# Altium schematic symbol library std.SchLib: 42 symbols
Pins are listed as number, name and electrical type; pins without a type are passive.

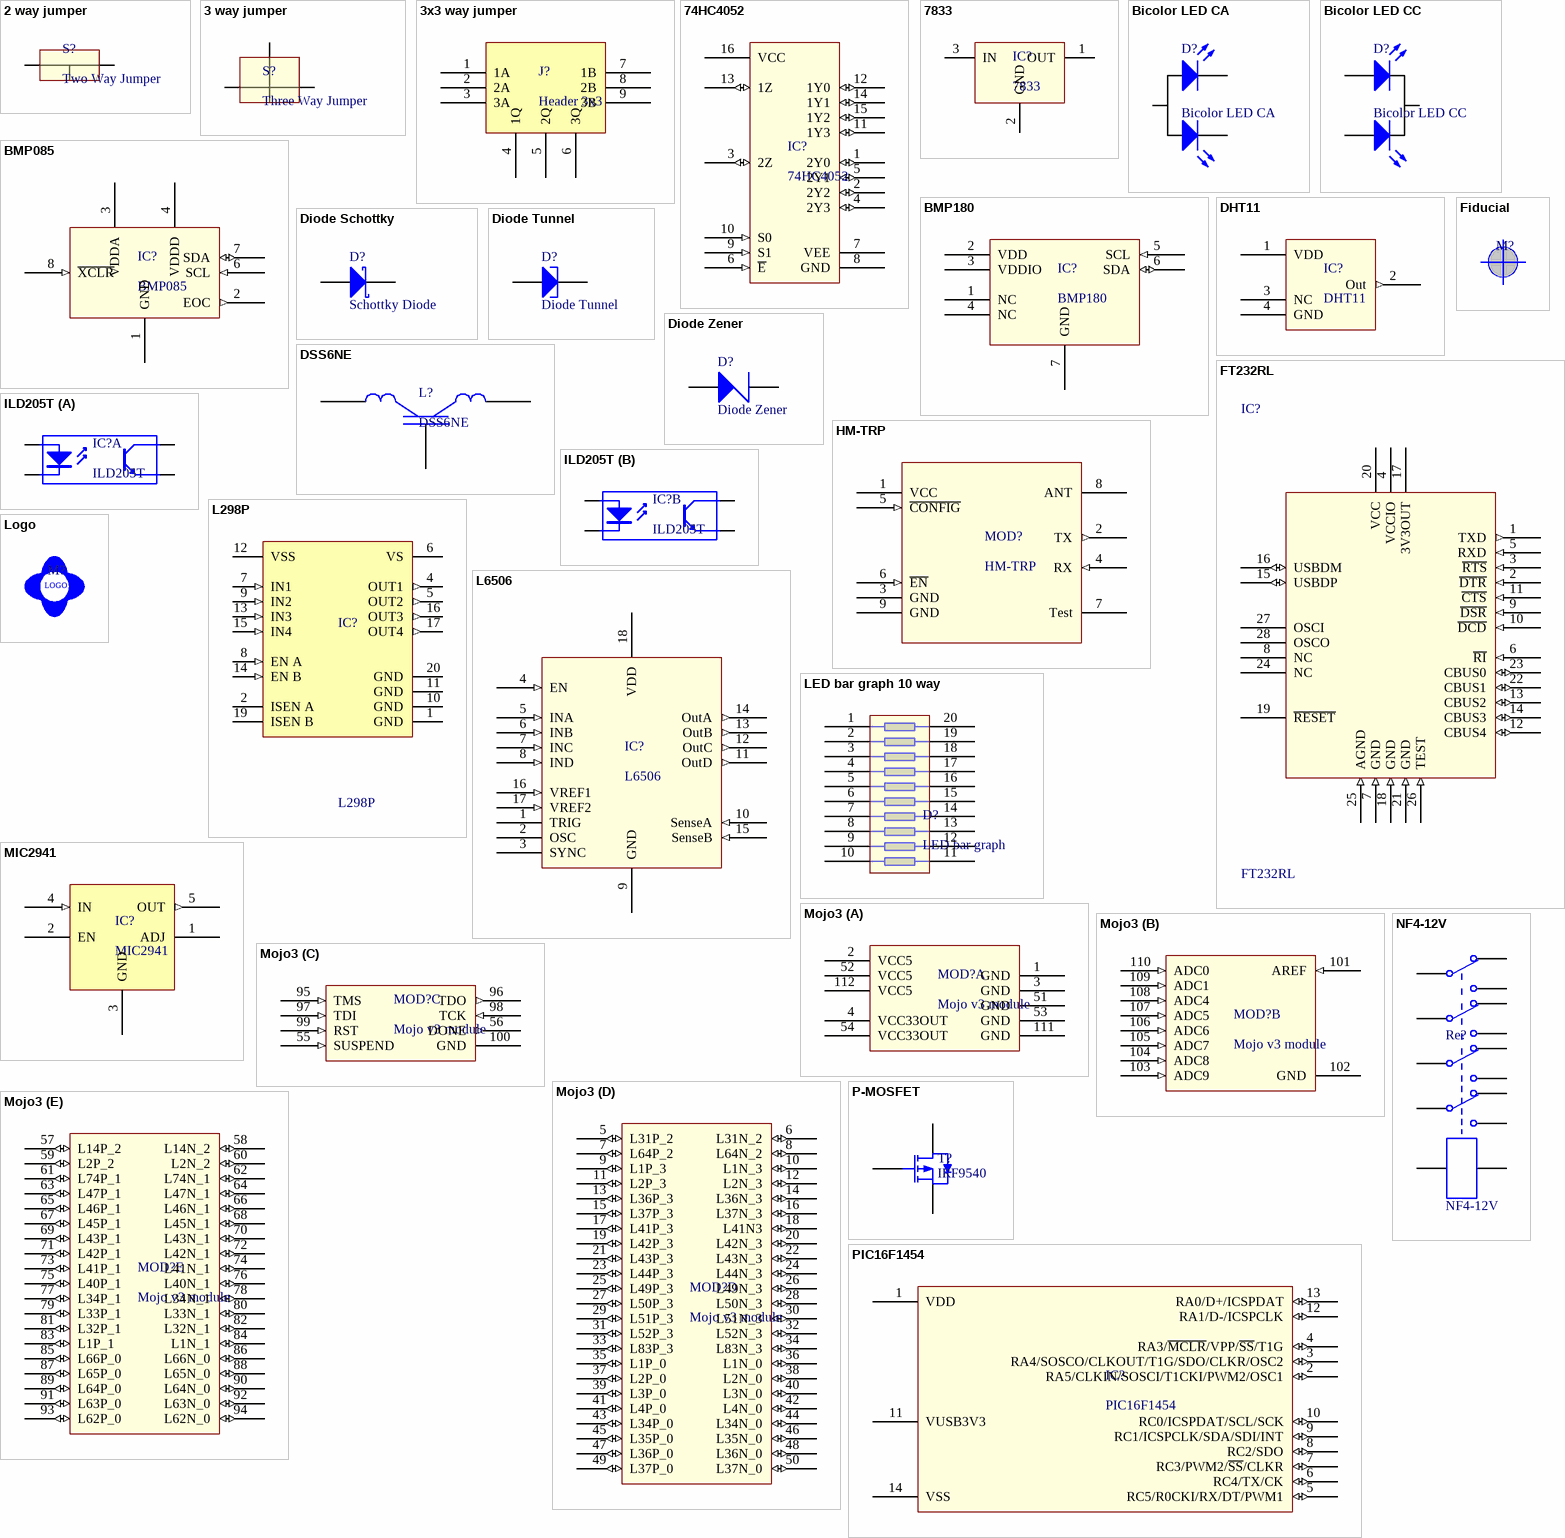
[diagram p0: symbols 2 way jumper to PIC16F1454]

## 2 way jumper
designator S?, comment Two Way Jumper
2 way jumper
footprint SW-2WAY (2 way jumper)
pins: 1 COM, 2 A, 3 C

## 3 way jumper
designator S?, comment Three Way Jumper
3 way jumper
footprint SW-3WAY (3 way jumper)
pins: 1 COM, 2 A, 3 B, 4 C

## 3x3 way jumper
designator J?, comment Header 3x3
3 x 3 way header
footprint CONN-HDR-0.1-3x3 (Header, 3 row, 9 way, 100 mil pitch)
pins: 1 1A "VDD", 2 2A "VDD", 3 3A "VDD", 4 1Q "VDD", 5 2Q "VDD", 6 3Q "VDD", 7 1B "VDD", 8 2B "VDD", 9 3B "VDD"

## 74HC4052
designator IC?
Dual 4-channel analog multiplexr/decoder
footprint IC-SOIC-16 (SOIC Narrow, 16-Leads, Body 9.9x3.9mm, Pitch 1.27mm)
pins: 1 2Y0 (io), 2 2Y2 (io), 3 2Z (io) "2Y0", 4 2Y3 (io), 5 2Y1 (io), 6 ~{E} (in) "Enable", 7 VEE (power) "Negative supply", 8 GND (power) "Ground", 9 S1 (in) "Channel Select 1", 10 S0 (in) "Channel Select 0", 11 1Y3 (io), 12 1Y0 (io), 13 1Z (io) "2Y0", 14 1Y1 (io), 15 1Y2 (io), 16 VCC (power) "Positive supply"

## 7833
designator IC?
Positive voltage regulator; Manufacturer: ST Microelectronics; PartNumber: L78L33; Datasheet: http://www.taydaelectronics.com/datasheets/A-492.pdf; Package: TO-92; Published: 2014-06-29; Publisher: VUB; Technology: Through hole
footprint TO-92-T (TO-92 package)
pins: 1 OUT "Output", 2 GND "Ground", 3 IN "Input"

## Bicolor LED CA
designator D?
Bicolor LED Common Anode; Published: 8-Jun-2000; LatestRevisionDate: 08-Jul-2005; LatestRevisionNote: Mech Layer 1 removed.; PackageReference: LED-0; Publisher: Altium Limited; PackageDescription: LED; 2 Leads
footprint LED-3MM-BICOLOR (Bicolor LED 3 mm)
simulation model LED0 (Diode)
pins: 1 K1, 2 K2, 3 A

## Bicolor LED CC
designator D?
Bicolor LED Common Cathode; Published: 8-Jun-2000; LatestRevisionDate: 08-Jul-2005; LatestRevisionNote: Mech Layer 1 removed.; PackageReference: LED-0; Publisher: Altium Limited; PackageDescription: LED; 2 Leads
footprint LED-3MM-BICOLOR (Bicolor LED 3 mm)
simulation model LED0 (Diode)
pins: 1 K1, 2 K2, 3 K

## BMP085
designator IC?
Digital Pressure Sensor; Manufacturer: Bosch; Datasheet: https://dlnmh9ip6v2uc.cloudfront.net/datasheets/Sensors/Pressure/BST-BMP085-DS000-06.pdf
footprint IC-LCC-8 (Footprint for the BMP085 barometer)
pins: 1 GND (power), 2 EOC (out) "End Of Conversion", 3 VDDA (power), 4 VDDD (power), 6 SCL (in), 7 SDA (io), 8 ~{XCLR} (in) "Master Clear"

## BMP180
designator IC?
Digital pressure sensor; Manufacturer: Bosch; PartNumber: BMP180; Technology: SMD; Package: LGA-7; Datasheet: https://www.adafruit.com/datasheets/BST-BMP180-DS000-09.pdf; OrderCode: http://www.aliexpress.com/item/Digital-pressure-sensor-BMP180/32251484519.html; Publisher: Vrije Universiteit Brussel; Published: 05/06/2015; Supplier: AliExpress; SupplierLink: http://www.aliexpress.com/item/Digital-pressure-sensor-BMP180/32251484519.html
footprint IC-LGA-7 (LGA package, 7 pins)
pins: 1 NC (power) "Not Connected", 2 VDD (power) "Power", 3 VDDIO (power) "IO Voltage", 4 NC "Not Connected", 5 SCL (in) "I²C Clock", 6 SDA (io) "I²C Data", 7 GND (power) "Ground"

## DHT11
designator IC?
Humidity  & Temperate Sensor; Manufacturer: Aosong; Supplier: AliExpress; Datasheet: http://akizukidenshi.com/download/ds/aosong/dht11.pdf; PartNumber: DHT11; Technology: Through hole; Package: 4 pin single row; SupplierLink: http://www.aliexpress.com/item/DHT11-DHT-11-Digital-Temperature-and-Humidity-Temperature-sensor/1957252682.html; OrderCode: http://www.aliexpress.com/item/DHT11-DHT-11-Digital-Temperature-and-Humidity-Temperature-sensor/1957252682.html; Publisher: Vrije Universiteit Brussel; Published: 05/06/2015
footprint IC-DHT11 (DHT11 Temperature & Humidity Sensor)
pins: 1 VDD (power), 2 Out (out) "Single Wire Digital Output", 3 NC "Not Connected", 4 GND (power) "Ground"

## Diode Schottky
designator D?, comment Schottky Diode
Published: 8-Jun-2000; LatestRevisionDate: 17-Jul-2002; LatestRevisionNote: Re-released for DXP Platform.; PackageReference: SMB; Publisher: Altium Limited; PackageDescription: DO-214-AA/SMB; 2 C-Bend Leads; Body 5.3 x 3.6 mm, inc. leads (LxW); Code_JEDEC: DO-214-AA
footprint DIODE-0.3-SCHOTTKY (Axial Schottky Diode, Leads 0.3 inch spacing)
simulation model SKYDIODE (Diode)
signal-integrity model D Schottky
pins: 1 A, 2 K

## Diode Tunnel
designator D?
Tunnel Diode; Published: 8-Jun-2000; LatestRevisionDate: 17-Jul-2002; LatestRevisionNote: Re-released for DXP Platform.; PackageVersion: Sep-1996; PackageReference: SMC; Publisher: Altium Limited; PackageDescription: DO-214-AB/SMC; 2 C-Bend Leads; Body 7.9 x 5.9 mm, inc. leads (LxW); Code_JEDEC: DO-214-AB
footprint DIODE-0.3-TUNNEL (Axial Tunnel Diode, Leads 0.3 inch spacing)
simulation model DIODE (Diode)
signal-integrity model Diode
pins: 1 A, 2 K

## Diode Zener
designator D?
Zener Diode; Published: 8-Jun-2000; LatestRevisionDate: 17-Jul-2002; LatestRevisionNote: Re-released for DXP Platform.; PackageReference: DIODE-0.7; Publisher: Altium Limited; PackageDescription: Diode, Thru-Hole; 2 Leads; 0.7 in Pin Spacing
footprint DIODE-0.3-ZENER (Axial Zener Diode, Leads 0.3 inch spacing)
simulation model ZENER (Diode)
signal-integrity model D Zener
pins: 1 A, 2 K

## DSS6NE
designator L?
Line filter
footprint IND-SS6NE (DSS6NE52A222Q55B Integrated line filter, 100 mil pitch)
pins: 1 IN "Input", 2 GND (power) "Ground", 3 OUT "Output"

## Fiducial
designator M?  (value not drawn)
Fiducial marking
footprint MECH-FID-ALL

## FT232RL
designator IC?
FT232 UART IC; Farnell: 1146032; Supplier: FTDI; Datasheet: http://www.farnell.com/datasheets/1647396.pdf
footprint IC-SSOP-28 (SSOP, Plastic; 28 Leads; Body Width 5.3 mm; Pitch 0.65 mm)
pins: 1 TXD (out), 2 ~{DTR} (in), 3 ~{RTS} (in), 4 VCCIO (power), 5 RXD (in), 6 ~{RI} (in), 7 GND (in), 8 NC (power), 9 ~{DSR} (in), 10 ~{DCD} (in), 11 ~{CTS} (in), 12 CBUS4 (io), 13 CBUS2 (io), 14 CBUS3 (io), 15 USBDP (io), 16 USBDM (io), 17 3V3OUT (power), 18 GND (in), 19 ~{RESET} (power), 20 VCC (power), 21 GND (in), 22 CBUS1 (io), 23 CBUS0 (io), 24 NC (power), 25 AGND (in), 26 TEST (in), 27 OSCI (power), 28 OSCO (power)

## HM-TRP
designator MOD?
HM-TRP Series 100 mW Transceiver module; Manufacturer: Hope RF; Datasheet: http://hoperfusa.com/docs/HM-TRP.pdf; OrderCode: HM-TRP; Package: SMD; PartNumber: HM-TRP; Published: 28-06-2014; Publisher: VUB; Technology: Surface Mount
footprint HM-TRP (Hope RF HM-TRP 433 MHz transceiver module)
pins: 1 VCC (power) "Power supply", 2 TX (out) "Data transmission", 3 GND (power) "Ground", 4 RX (in) "Data receiver", 5 ~{CONFIG} (in) "Configuration mode enable", 6 ~{EN} (in) "Enable", 7 Test, 8 ANT "Antenna", 9 GND (power) "Ground"

## ILD205T
designator IC?
Optocoupler, Phototransistor Output, Dual Channel; Manufacturer: Vishay Semiconductor; OrderCode: 1469512; PartNumber: ILD205T; Supplier: Farnell; Technology: SMD; Package: SOIC-8; Datasheet: http://www.vishay.com/docs/83647/ild205t.pdf; SupplierLink: http://be.farnell.com/vishay-semiconductor/ild205t/optocoupler-transistor-o-p/dp/1469512
footprint IC-SOIC-8 (SOIC, 8-Leads, Body 4.9x3.8mm, Pitch 1.27mm, IPC Medium Density)
part A pins: 1 A "Anode", 2 C "Cathode", 7 E "Emitter", 8 C "Collector"
part B pins: 3 A "Anode", 4 C "Cathode", 5 E "Emitter", 6 C "Collector"

## L298P
designator IC?
Dual Full Bridge Driver; Manufacturer: ST Microelectronics; Supplier: AliExpress; SupplierLink: http://www.aliexpress.com/item/L298P-L298-SOP20-double-completely-excessive-drive/1980599150.html; Datasheet: http://www.st.com/web/en/resource/technical/document/datasheet/CD00000240.pdf; Technology: SMD; Package: PowerSO-20; PartNumber: L298P
footprint IC-PowerSO-20
pins: 1 GND (power), 2 ISEN A, 4 OUT1 (out), 5 OUT2 (out), 6 VS (power), 7 IN1 (in), 8 EN A (in), 9 IN2 (in), 10 GND (power), 11 GND (power), 12 VSS (power), 13 IN3 (in), 14 EN B (in), 15 IN4 (in), 16 OUT3 (out), 17 OUT4 (out), 19 ISEN B, 20 GND (power)

## L6506
designator IC?
PWM Current Controller
footprint IC-DIP-18 (DIP-18 package, 100 mil pitch, 300 mil row pitch)
pins: 1 TRIG "Trigger", 2 OSC "Oscillator", 3 SYNC "Master/Slave Synchronization", 4 EN (in) "Power Enable", 5 INA (in) "Input A", 6 INB (in) "Input A", 7 INC (in) "Input A", 8 IND (in) "Input A", 9 GND (power), 10 SenseA (in) "Sense Input A", 11 OutD (out) "Output D", 12 OutC (out) "Output C", 13 OutB (out) "Output B", 14 OutA (out) "Output A", 15 SenseB (in) "Sense Input B", 16 VREF1 (in) "Reference Voltage 1", 17 VREF2 (in) "Reference Voltage 2", 18 VDD (power) "VCC"

## LED bar graph 10 way
designator D?, comment LED bar graph
LED bar graph, 10 positions
pins: 1 "Anode", 2 "Anode", 3 "Anode", 4 "Anode", 5 "Anode", 6 "Anode", 7 "Anode", 8 "Anode", 9 "Anode", 10 "Anode", 11 "Cathode", 12 "Cathode", 13 "Cathode", 14 "Cathode", 15 "Cathode", 16 "Cathode", 17 "Cathode", 18 "Cathode", 19 "Cathode", 20 "Cathode"

## Logo
designator M?  (value not drawn)
footprint LOGO-APERTURE-BTM (Aperture Science Logo, 300 mil)
text: LOGO

## MIC2941
designator IC?
1.2A Low-Dropout Voltage Regulator
footprint TO-263 (D2-PAK, 5-Leads, Body 9.3x10.2mm, Pitch 2.54mm, Lead Span 15.2mm, IPC High Density)
pins: 1 ADJ "Adjust", 2 EN "Shutdown", 3 GND (power) "Ground", 4 IN (in) "Input", 5 OUT (out) "Output", 6 Ground (power) hidden to GND

## Mojo3
designator MOD?, comment Mojo v3 module
footprint MOD-MOJO3 (Mojo v3 Board)
part A pins: 1 GND (power), 2 VCC5 (power) "VCC 5V", 3 GND (power), 4 VCC33OUT (power) "3.3V output", 51 GND (power), 52 VCC5 (power) "VCC 5V", 53 GND (power), 54 VCC33OUT (power) "3.3V output", 111 GND (power), 112 VCC5 (power) "VCC 5V"
part B pins: 101 AREF (in) "Analog reference voltage", 102 GND (power) "Ground", 103 ADC9 (in) "Analog input 9", 104 ADC8 (in) "Analog input 8", 105 ADC7 (in) "Analog input 7", 106 ADC6 (in) "Analog input 6", 107 ADC5 (in) "Analog input 5", 108 ADC4 (in) "Analog input 4", 109 ADC1 (in) "Analog input 1", 110 ADC0 (in) "Analog input 0"
part C pins: 55 SUSPEND (in) "Suspend", 56 DONE (out) "JTAG Done", 95 TMS (in) "JTAG TMS", 96 TDO (out) "JTAG TDO", 97 TDI (in) "JTAG TDI", 98 TCK (in) "JTAG TCK", 99 RST (in) "Reset", 100 GND "Ground"
part D pins: 5 L31P_2 (io) "IO", 6 L31N_2 (io) "IO", 7 L64P_2 (io) "IO", 8 L64N_2 (io) "IO", 9 L1P_3 (io) "IO", 10 L1N_3 (io) "IO", 11 L2P_3 (io) "IO", 12 L2N_3 (io) "IO", 13 L36P_3 (io) "IO", 14 L36N_3 (io) "IO", 15 L37P_3 (io) "IO", 16 L37N_3 (io) "IO", 17 L41P_3 (io) "IO", 18 L41N3 (io) "IO", 19 L42P_3 (io) "IO", 20 L42N_3 (io) "IO", 21 L43P_3 (io) "IO", 22 L43N_3 (io) "IO", 23 L44P_3 (io) "IO", 24 L44N_3 (io) "IO", 25 L49P_3 (io) "IO", 26 L49N_3 (io) "IO", 27 L50P_3 (io) "IO", 28 L50N_3 (io) "IO", 29 L51P_3 (io) "IO", 30 L51N_3 (io) "IO", 31 L52P_3 (io) "IO", 32 L52N_3 (io) "IO", 33 L83P_3 (io) "IO", 34 L83N_3 (io) "IO", 35 L1P_0 (io) "IO", 36 L1N_0 (io) "IO", 37 L2P_0 (io) "IO", 38 L2N_0 (io) "IO", 39 L3P_0 (io) "IO", 40 L3N_0 (io) "IO", 41 L4P_0 (io) "IO", 42 L4N_0 (io) "IO", 43 L34P_0 (io) "IO", 44 L34N_0 (io) "IO", 45 L35P_0 (io) "IO", 46 L35N_0 (io) "IO", 47 L36P_0 (io) "IO", 48 L36N_0 (io) "IO", 49 L37P_0 (io) "IO", 50 L37N_0 (io) "IO"
part E pins: 57 L14P_2 (io) "IO", 58 L14N_2 (io) "IO", 59 L2P_2 (io) "IO", 60 L2N_2 (io) "IO", 61 L74P_1 (io) "IO", 62 L74N_1 (io) "IO", 63 L47P_1 (io) "IO", 64 L47N_1 (io) "IO", 65 L46P_1 (io) "IO", 66 L46N_1 (io) "IO", 67 L45P_1 (io) "IO", 68 L45N_1 (io) "IO", 69 L43P_1 (io) "IO", 70 L43N_1 (io) "IO", 71 L42P_1 (io) "IO", 72 L42N_1 (io) "IO", 73 L41P_1 (io) "IO", 74 L41N_1 (io) "IO", 75 L40P_1 (io) "IO", 76 L40N_1 (io) "IO", 77 L34P_1 (io) "IO", 78 L34N_1 (io) "IO", 79 L33P_1 (io) "IO", 80 L33N_1 (io) "IO", 81 L32P_1 (io) "IO", 82 L32N_1 (io) "IO", 83 L1P_1 (io) "IO", 84 L1N_1 (io) "IO", 85 L66P_0 (io) "IO", 86 L66N_0 (io) "IO", 87 L65P_0 (io) "IO", 88 L65N_0 (io) "IO", 89 L64P_0 (io) "IO", 90 L64N_0 (io) "IO", 91 L63P_0 (io) "IO", 92 L63N_0 (io) "IO", 93 L62P_0 (io) "IO", 94 L62N_0 (io) "IO"

## NF4-12V
designator Re?
4 Pole Change Over Relay Switch; Published: 24-Mar-1999; LatestRevisionDate: 17-Jul-2002; LatestRevisionNote: Re-released for DXP Platform.; PackageReference: DIP-P8; Publisher: Altium Limited; PackageDescription: Relay; 8 Leads
footprint REL-4PCO-0.2 (Relay, 4PCO, 14 leads, switch pitch 200 mil, switch coil pitch 400 mil, row pitch 200 mil)
simulation model DPDTRELAY (Spice Subcircuit)
pins: 1, 2, 3, 4, 5, 6, 7, 8, 9, 10, 11, 12, 13, 14

## P-MOSFET
designator T?, comment IRF9540
P-Channel MOSFET; Published: 8-Jun-2000; LatestRevisionDate: 17-Jul-2002; LatestRevisionNote: Re-released for DXP Platform.; PackageVersion: 1995/1996; PackageReference: E3; Publisher: Altium Limited; PackageDescription: TO, Flat Index; 3 In-Line, Axial Leads; Body Dia. 4.6mm; Lead Dia. 0.5 mm (max)
footprint TO-220 (TO, Thru-Hole, Vertical, Heatsink Mounted; 3 In-Line Leads; Pitch 2.54 mm)
simulation model PMOS (MOSFET-P)
pins: 1 D, 2 G, 3 S

## PIC16F1454
designator IC?
14-Pin Flash 8-Bit USB Microcontroller with XLP Technology; Manufacturer: Microchip; PartNumber: PIC16F1454-I/P; OrderCode: 2305809; SupplierLink: http://be.farnell.com/microchip/pic16f1454-i-p/mcu-8bit-pic16-48mhz-dip-14/dp/2305809; Supplier: Farnell; Package: DIP-14; Technology: Through hole; Publisher: Vrije Universiteit Brussel; Published: 15/06/2015
footprint IC-DIP-14 (DIP; 14 Leads; Row Spacing 7.62 mm; Pitch 2.54 mm)
pins: 1 VDD (power), 2 RA5/CLKIN/SOSCI/T1CKI/PWM2/OSC1 (io) "GPIO", 3 RA4/SOSCO/CLKOUT/T1G/SDO/CLKR/OSC2 (io) "GPIO", 4 RA3/~{MCLR}/VPP/~{SS}/T1G (io) "Reset, GPIO", 5 RC5/R0CKI/RX/DT/PWM1 (io) "GPIO", 6 RC4/TX/CK (io) "GPIO", 7 RC3/PWM2/~{SS}/CLKR (io) "GPIO", 8 RC2/SDO (io) "GPIO", 9 RC1/ICSPCLK/SDA/SDI/INT (io) "GPIO", 10 RC0/ICSPDAT/SCL/SCK (io) "GPIO", 11 VUSB3V3 (power) "USB Voltage Rail 3.3V", 12 RA1/D-/ICSPCLK (io) "GPIO, USB D-", 13 RA0/D+/ICSPDAT (io) "GPIO, USB D+", 14 VSS (power)

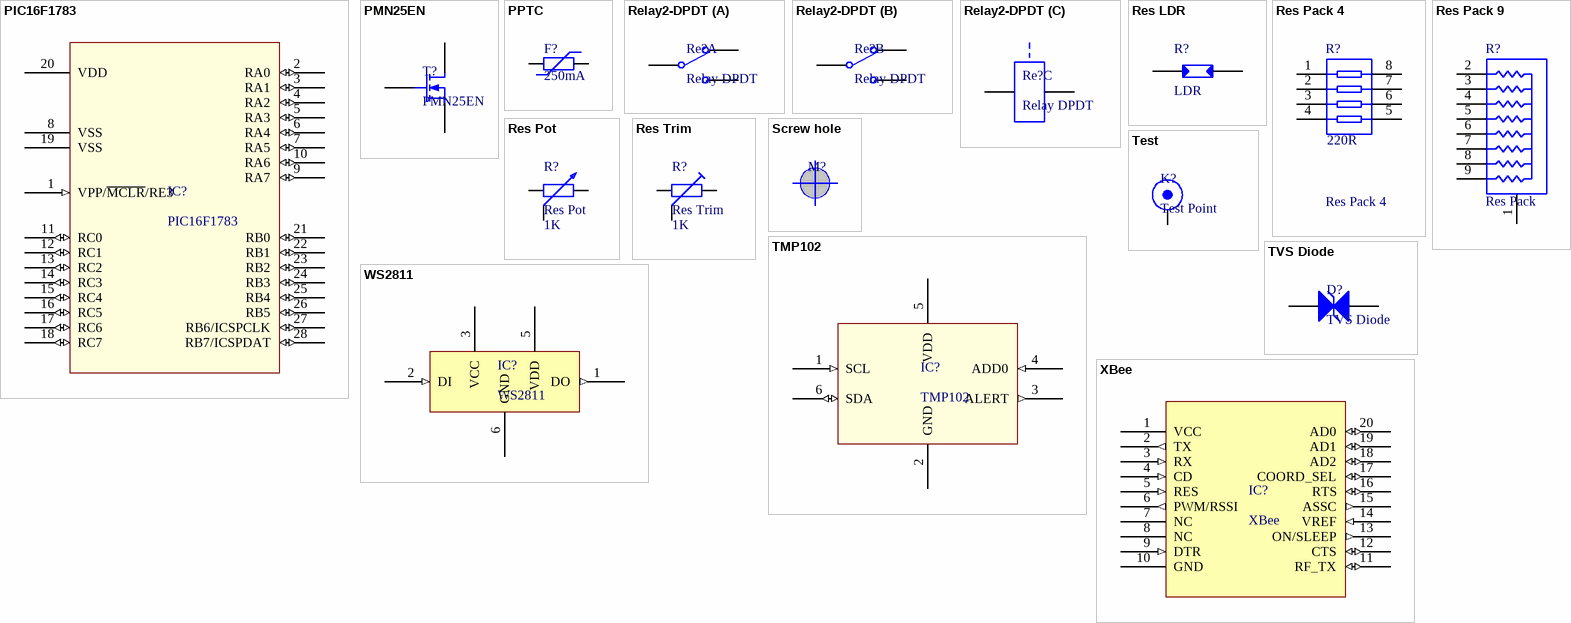
[diagram p1: symbols PIC16F1783 to XBee]

## PIC16F1783
designator IC?
28-Pin 8-Bit Advanced Analog Flash Microcontroller; Manufacturer: Microchip; Datasheet: http://ww1.microchip.com/downloads/en/DeviceDoc/41579D.pdf; LatestRevisionDate: 5-Dec-2013
footprint IC-DIP-28 (DIP, 28-Leads, Row Spacing 7.62mm, Pitch 2.54mm, Body 34.67x7.3mm)
pins: 1 VPP/~{MCLR}/RE3 (in) "VPP/MCLR/RE3", 2 RA0 (io), 3 RA1 (io) "RA0", 4 RA2 (io) "RA0", 5 RA3 (io) "RA0", 6 RA4 (io) "RA0", 7 RA5 (io) "RA0", 8 VSS (power), 9 RA7 (io), 10 RA6 (io) "RA7", 11 RC0 (io), 12 RC1 (io) "RC0", 13 RC2 (io) "RC0", 14 RC3 (io) "RC0", 15 RC4 (io) "RC0", 16 RC5 (io) "RC0", 17 RC6 (io) "RC0", 18 RC7 (io) "RC0", 19 VSS (power), 20 VDD (power), 21 RB0 (io), 22 RB1 (io) "RB0", 23 RB2 (io) "RB0", 24 RB3 (io) "RB0", 25 RB4 (io) "RB0", 26 RB5 (io) "RB0", 27 RB6/ICSPCLK (io), 28 RB7/ICSPDAT (io)

## PMN25EN
designator T?
30V, 6.2A, N-channel Trench MOSFET; Manufacturer: NXP; OrderCode: 2069560; Datasheet: http://www.farnell.com/datasheets/1508382.pdf; Supplier: Farnell; SupplierLink: http://be.farnell.com/nxp/pmn25en/mosfet-n-ch-30v-6-2a-sot457/dp/2069560; Package: TSSOP-6; Technology: SMD
footprint IC-TSOT-6 (SOT23, 6-Leads, Body 2.9x1.6mm, Pitch 0.95mm, Lead Span 2.8mm, IPC High Density)
pins: 1 D, 2 D (power) "Ground", 3 G, 4 S, 5 D (power) "Ground", 6 D (power) "Ground"

## PPTC
designator F?, comment 250mA
PPTC Resettable Fuse; Voltage: 16V; Published: 11-06-2015; Publisher: Vrije Universiteit Brussel; Value: 250mA
footprint FUSE-1812 (Resettable fuse, 1812)
pins: 1, 2

## Relay2-DPDT
designator Re?, comment Relay DPDT
footprint REL-DPDT-0.3 (Relay, DPDT, 8 leads, switch pitch 100 mil, switch coil pitch 400 mil, row pitch 200 mil)
part A pins: 1, 2, 8
part B pins: 9, 15, 16
part C pins: 3, 14

## Res LDR
designator R?, comment LDR
LDR (Light Dependent Resistor); Published: 24-Mar-1999; LatestRevisionDate: 29-May-2009; LatestRevisionNote: IPC-7351 Footprint Added.; PackageVersion: Mar-2003; PackageReference: 6-0805; Publisher: Altium Limited; PackageDescription: Chip Resistor 0805 Case Size; Code_IPC: RESC2012
footprint 6-0805_N (Chip Resistor, Body 2.0x1.2mm, IPC Medium Density)
footprint 6-0805_L (Chip Resistor, Body 2.0x1.2mm, IPC High Density)
footprint 6-0805_M (Chip Resistor, Body 2.0x1.2mm, IPC Low Density)
footprint OPTO-LDR (Light Dependent Resistor)
pins: 1, 2

## Res Pack 4
designator R?  value 220R
Isolated Resistor Network; Published: 24-Mar-1999; LatestRevisionDate: 29-May-2009; LatestRevisionNote: IPC-7351 Footprint Added.; PackageVersion: Oct-2003; PackageReference: SSOP16; Publisher: Altium Limited; PackageDescription: 16-Pin Plastic Small Outline Package 0.65 mm Pitch; Code_JEDEC: MO-150-AC; Code_IPC: SOP65P780-16
footprint RES-ARRAY-1206 (Yageo Resistor Array, TC164, 1206)
footprint SSOP16_L (SOP, 16-Leads, Body 6.2x5.3mm, Pitch 0.65mm, IPC High Density)
footprint SSOP16_M (SOP, 16-Leads, Body 6.2x5.3mm, Pitch 0.65mm, IPC Low Density)
simulation model respack_8 (Spice Subcircuit)
pins: 1, 2, 3, 4, 5, 6, 7, 8

## Res Pack 9
designator R?, comment Res Pack
Isolated Resistor Network; Value: 1K; Published: 24-Mar-1999; LatestRevisionDate: 29-May-2009; LatestRevisionNote: IPC-7351 Footprint Added.; PackageReference: SO-16; Publisher: Altium Limited; PackageDescription: 16-Pin Small Outline Integrated Circuit 1.27 mm Pitch; Code_JEDEC: MS-012-AC; Code_IPC: SOIC127P600-16
footprint RES-SIP-9 (Resistor, network, 8 way common)
footprint SO-16_L (SOIC, 16-Leads, Body 9.9x3.9mm, Pitch 1.27mm, IPC High Density)
footprint SO-16_M (SOIC, 16-Leads, Body 9.9x3.9mm, Pitch 1.27mm, IPC Low Density)
simulation model respack_8 (Spice Subcircuit)
pins: 1, 2, 3, 4, 5, 6, 7, 8, 9

## Res Pot
designator R?  value 1K
Variable Resistor; Set Position: 0.5; Published: 8-Jun-2000; LatestRevisionDate: 17-Jul-2002; LatestRevisionNote: Re-released for DXP Platform.; PackageReference: AXIAL-0.6; Publisher: Altium Limited; PackageDescription: Axial Device, Thru-Hole; 2 Leads; 0.6 in Pin Spacing
footprint RES-POT-2.5 (Potentiometer, 3 leads, 2.5 mm pitch, vertical)
simulation model VRES (Variable Resistor)
signal-integrity model Res Adj
pins: 1, 2, 3 (power) "VSS"

## Res Trim
designator R?  value 1K
Variable Resistor; Set Position: 0.5; Published: 8-Jun-2000; LatestRevisionDate: 17-Jul-2002; LatestRevisionNote: Re-released for DXP Platform.; PackageReference: AXIAL-0.6; Publisher: Altium Limited; PackageDescription: Axial Device, Thru-Hole; 2 Leads; 0.6 in Pin Spacing
footprint RES-TRIM-3386P (Trimpot, 200 mil x 100 mil pitch)
simulation model VRES (Variable Resistor)
signal-integrity model Res Adj
pins: 1, 2, 3 (power) "VSS"

## Screw hole
designator M?  (value not drawn)
footprint MECH-SCREW-M2.3 (Screw M2.3)

## Test
designator K?, comment Test Point
footprint TEST (Test Point)
pins: 1 TEST "Test"

## TMP102
designator IC?
Low Power I²C Temperature Sensor; Manufacturer: Texas Instruments; Datasheet: http://www.ti.com/lit/ds/sbos397c/sbos397c.pdf; URL: http://www.ti.com/product/tmp102
footprint IC-SOT-563 (SOT-563, 6 leads, 20 mil pitch)
pins: 1 SCL (in), 2 GND (power) "Ground", 3 ALERT (out) "Alert", 4 ADD0 (in) "Address 0", 5 VDD (power), 6 SDA (io)

## TVS Diode
designator D?
TVS Peak Voltage Suppressor
pins: 1 A "Anode", 2 K "Cathode"

## WS2811
designator IC?
WS2811 RGB LED Controller
footprint LED-WHITE-5050 (LED, white, SMD, 5050)
pins: 1 DO (out) "Data Out", 2 DI (in) "Data Input", 3 VCC, 5 VDD "Vdd", 6 GND

## XBee
designator IC?
XBee header
footprint XBee (XBee header)
pins: 1 VCC (power), 2 TX (out), 3 RX (in), 4 CD (in), 5 RES (in), 6 PWM/RSSI (out), 7 NC (hiz), 8 NC (hiz), 9 DTR (in), 10 GND (power), 11 RF_TX (io), 12 CTS (io), 13 ON/SLEEP (out), 14 VREF (in), 15 ASSC (out), 16 RTS (io), 17 COORD_SEL (io), 18 AD2 (io), 19 AD1 (io), 20 AD0 (io)